# EAGLE library part CON-PCB-SLOT-0.05 (library con-pcb-slot)
PCB slot (edge) connector with 0.05" pitch (based on conventional PCI)
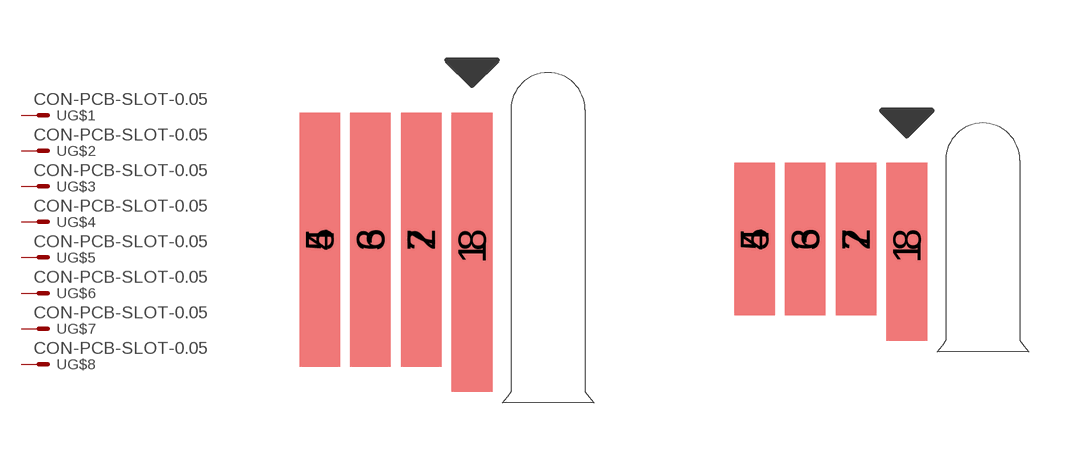
[diagram p0: symbol with the pads of CONN_SLOT; footprints CONN_SLOT, CONN_SLOT_MINIMAL]

Designator prefix -; gates G$1=PIN G$2=PIN G$3=PIN G$4=PIN G$5=PIN G$6=PIN G$7=PIN G$8=PIN

## CON-PCB-SLOT-0.05  [CONN_SLOT]
1  G$1:S  pas
2  G$2:S  pas
3  G$3:S  pas
4  G$4:S  pas
5  G$5:S  pas
6  G$6:S  pas
7  G$7:S  pas
8  G$8:S  pas

## CON-PCB-SLOT-0.05MINIMAL  [CONN_SLOT_MINIMAL]
Pads as for CONN_SLOT

## Footprint CONN_SLOT (pad centres in mm)
smd 1.016 x 6.985: 1 1.905,-0.043
smd 1.016 x 6.35: 2 0.635,0.275; 3 -0.635,0.275; 4 -1.905,0.275
smd 1.016 x 6.35 bottom: 5 -1.905,0.275; 6 -0.635,0.275; 7 0.635,0.275; 8 1.905,0.275

## Footprint CONN_SLOT_MINIMAL (pad centres in mm)
smd 1.016 x 4.445: 1 1.905,-0.043
smd 1.016 x 3.81: 2 0.635,0.275; 3 -0.635,0.275; 4 -1.905,0.275
smd 1.016 x 3.81 bottom: 5 -1.905,0.275; 6 -0.635,0.275; 7 0.635,0.275; 8 1.905,0.275